# Altium footprint library LM358.PcbLib: 4 footprints
Each footprint in its own frame and in the unit in brackets; x right, y up, seen from the top. Pads: shape width x height; smd on the part's side, far side on the other; paste and mask are expansions set on the pad; w line width, h text height; cw(c..) or ccw(c..) is an arc to the next point about the centre after c.
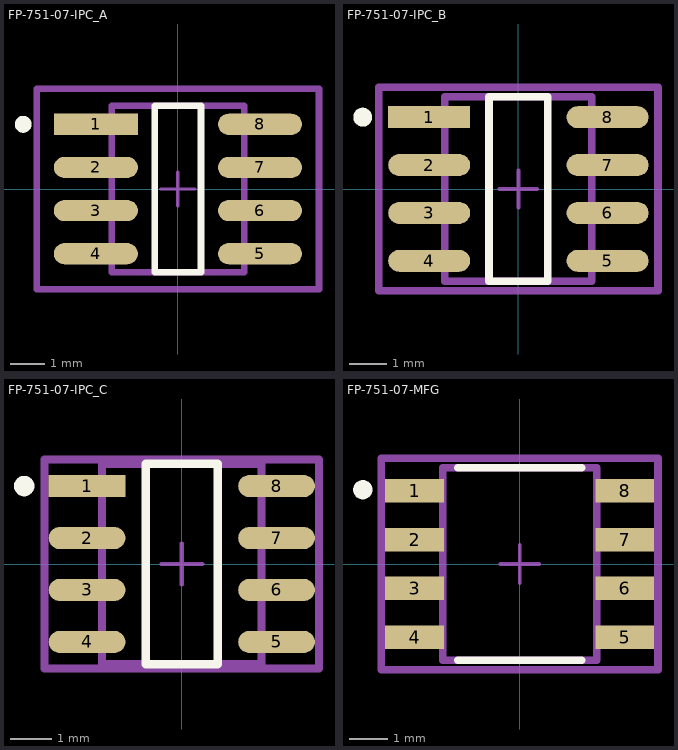
[diagram p0: the footprints below, top view; thin cyan lines are the x and y axes]

## FP-751-07-IPC_A [mil]
pads (8):
  rect 97.4x24.54 smd paste+0 mask+0: 1(-95.12,75)
  rrect100% 97.4x24.54 smd paste+0 mask+0: 2(-95.12,25) 3(-95.12,-25) 4(-95.12,-75) 5(95.12,-75) 6(95.12,-25) 7(95.12,25) 8(95.12,75)
Top Overlay:
  circle w9.84: c-179.26,75 r4.92
  lines w7.87: -26.73,-96.46 26.73,-96.46 26.73,96.46 -26.73,96.46 -26.73,-96.46
Top Assembly:
  lines w7.87: -163.51,-116.14 163.51,-116.14 163.51,116.14 -163.51,116.14 -163.51,-116.14
  text ".Designator" at 0,7.39 h39.37
Top 3D Body:
  lines w7.87: -76.77,-96.46 76.77,-96.46 76.77,96.46 -76.77,96.46 -76.77,-96.46
Top Courtyard:
  lines w7.87: -163.51,-116.14 163.51,-116.14 163.51,116.14 -163.51,116.14 -163.51,-116.14
Top Component Center:
  lines w3.94: -19.68,0 19.68,0 ; 0,-19.68 0,19.68
3D body "IC_ON_Semiconductor_LM2931AD-5_0R2G_eec.STEP": height 10, standoff 0, extent -163.51,-116.14 163.51,116.14

## FP-751-07-IPC_B [mil]
pads (8):
  rect 85.59x22.97 smd paste+0 mask+0: 1(-93.15,75)
  rrect100% 85.59x22.97 smd paste+0 mask+0: 2(-93.15,25) 3(-93.15,-25) 4(-93.15,-75) 5(93.15,-75) 6(93.15,-25) 7(93.15,25) 8(93.15,75)
Top Overlay:
  circle w9.84: c-162.52,75 r4.92
  lines w7.87: -30.67,-96.46 30.67,-96.46 30.67,96.46 -30.67,96.46 -30.67,-96.46
Top Assembly:
  lines w7.87: -145.79,-106.3 145.79,-106.3 145.79,106.3 -145.79,106.3 -145.79,-106.3
  text ".Designator" at 0,7.39 h39.37
Top 3D Body:
  lines w7.87: -76.77,-96.46 76.77,-96.46 76.77,96.46 -76.77,96.46 -76.77,-96.46
Top Courtyard:
  lines w7.87: -145.79,-106.3 145.79,-106.3 145.79,106.3 -145.79,106.3 -145.79,-106.3
Top Component Center:
  lines w3.94: -19.68,0 19.68,0 ; 0,-19.68 0,19.68
3D body "IC_ON_Semiconductor_LM2931AD-5_0R2G_eec.STEP": height 10, standoff 0, extent -145.79,-106.3 145.79,106.3

## FP-751-07-IPC_C [mil]
pads (8):
  rect 73.78x21.39 smd paste+0 mask+0: 1(-91.18,75)
  rrect100% 73.78x21.39 smd paste+0 mask+0: 2(-91.18,25) 3(-91.18,-25) 4(-91.18,-75) 5(91.18,-75) 6(91.18,-25) 7(91.18,25) 8(91.18,75)
Top Overlay:
  circle w9.84: c-151.7,75 r4.92
  lines w7.87: -34.61,-96.46 34.61,-96.46 34.61,96.46 -34.61,96.46 -34.61,-96.46
Top Assembly:
  lines w7.87: -132.01,-100.39 132.01,-100.39 132.01,100.39 -132.01,100.39 -132.01,-100.39
  text ".Designator" at 0,7.39 h39.37
Top 3D Body:
  lines w7.87: -76.77,-96.46 76.77,-96.46 76.77,96.46 -76.77,96.46 -76.77,-96.46
Top Courtyard:
  lines w7.87: -132.01,-100.39 132.01,-100.39 132.01,100.39 -132.01,100.39 -132.01,-100.39
Top Component Center:
  lines w3.94: -19.68,0 19.68,0 ; 0,-19.68 0,19.68
3D body "IC_ON_Semiconductor_LM2931AD-5_0R2G_eec.STEP": height 10, standoff 0, extent -132.01,-100.39 132.01,100.39

## FP-751-07-MFG [mil]
pads (8):
  rect 60x24 smd paste+0 mask+0: 1(-107.5,75) 2(-107.5,25) 3(-107.5,-25) 4(-107.5,-75) 5(107.5,-75) 6(107.5,-25) 7(107.5,25) 8(107.5,75)
Top Overlay:
  circle w9.84: c-160.43,75.98 r4.92
  lines w7.87: -63.19,-98.43 63.19,-98.43 ; -63.19,98.43 63.19,98.43
Top Assembly:
  lines w7.87: -141.44,-108.27 141.44,-108.27 141.44,108.27 -141.44,108.27 -141.44,-108.27
  text ".Designator" at 0,7.39 h39.37
Top 3D Body:
  lines w7.87: -78.74,-98.43 78.74,-98.43 78.74,98.43 -78.74,98.43 -78.74,-98.43
Top Courtyard:
  lines w7.87: -141.44,-108.27 141.44,-108.27 141.44,108.27 -141.44,108.27 -141.44,-108.27
Top Component Center:
  lines w3.94: -19.68,0 19.68,0 ; 0,-19.68 0,19.68
3D body "IC_ON_Semiconductor_LM2931AD-5_0R2G_eec.STEP": height 10, standoff 0, extent -141.44,-108.27 141.44,108.27